# Altium schematic symbol library Schlib1.SchLib: 8 symbols
Pins are listed as number, name and electrical type; pins without a type are passive.

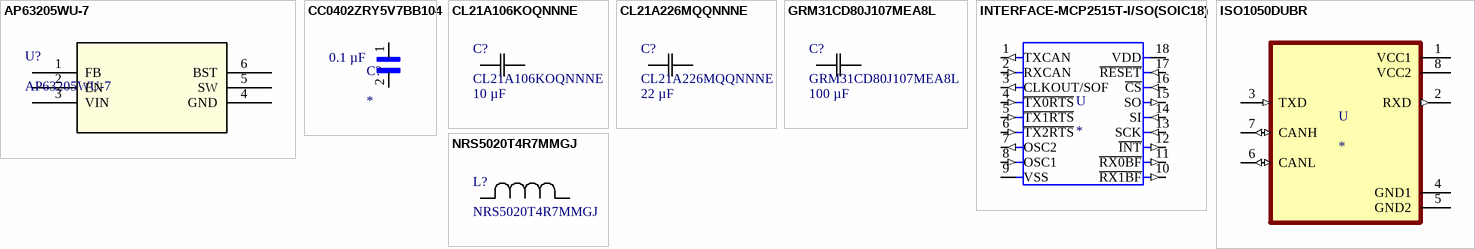
[diagram p0: symbols AP63205WU-7 to NRS5020T4R7MMGJ]

## AP63205WU-7
designator U?
No Description Available; Mfr_Name: Diodes Inc; Copyright: Copyright (C) 2023 Ultra Librarian. All rights reserved.; Manufacturer_Part_Number: AP63205WU-7; RefDes: RefDes; Type: DEV
footprint SOIC_05WU-7_DIO
pins: 1 FB, 2 EN, 3 VIN, 4 GND (power), 5 SW, 6 BST

## CC0402ZRY5V7BB104
designator C?  value 0.1 µF
0.1ÂµF -20%, +80% 16V Ceramic Capacitor Y5V (F) 0402 (1005 Metric); MP: CC0402ZRY5V7BB104; MF: Yageo; Digi-Key_Part_Number: 311-1047-1-ND; Package: 0402 Yageo; SnapEDA_Link: https://www.snapeda.com/parts/CC0402ZRY5V7BB104/Yageo/view-part/1821018/?ref=snap
footprint CAPC1005X55N
pins: 1, 2

## CL21A106KOQNNNE
designator C?  value 10 µF
No Description Available; Mfr_Name: Samsung; Type: DEV; Copyright: Copyright (C) 2023 Ultra Librarian. All rights reserved.; Manufacturer_Part_Number: CL21A106KOQNNNE; RefDes: RefDes
footprint CAP_CL21_SAM
pins: 1, 2

## CL21A226MQQNNNE
designator C?  value 22 µF
No Description Available; Mfr_Name: Samsung; Type: DEV; Copyright: Copyright (C) 2023 Ultra Librarian. All rights reserved.; Manufacturer_Part_Number: CL21A226MQQNNNE; RefDes: RefDes
footprint CAP_CL21_SAM
pins: 1, 2

## GRM31CD80J107MEA8L
designator C?  value 100 µF
No Description Available; Mfr_Name: Murata; Type: DEV; Copyright: Copyright (C) 2023 Ultra Librarian. All rights reserved.; Manufacturer_Part_Number: GRM31CD80J107MEA8L; RefDes: RefDes
footprint CAP_GRM31C_MUR
pins: 1, 2

## INTERFACE-MCP2515T-I/SO(SOIC18)
designator U
CANbus Controller CAN 2.0 SPI Interface 18-SOIC; MP: MCP2515T-I/SO; MF: Microchip; Availability: Unavailable; SnapEDA_Link: https://www.snapeda.com/parts/MCP2515T-I/SO/Microchip/view-part/105731/?ref=snap; Package: SOIC-18 Microchip; Value: *; Price: None
footprint SOIC18-1.27-11.5X7.5MM
pins: 1 TXCAN (out), 2 RXCAN (in), 3 CLKOUT/SOF (out), 4 ~{TX0RTS} (in), 5 ~{TX1RTS} (in), 6 ~{TX2RTS} (in), 7 OSC2 (out), 8 OSC1 (in), 9 VSS (power), 10 ~{RX1BF} (out), 11 ~{RX0BF} (out), 12 ~{INT} (out), 13 SCK (in), 14 SI (in), 15 SO (out), 16 ~{CS} (in), 17 ~{RESET} (in), 18 VDD (power)

## ISO1050DUBR
designator U
Isolated 5-V CAN transceiver 8-SOP -55 to 105; MP: ISO1050DUBR; MF: Texas Instruments; Package: SOP-8 Texas Instruments; DigiKey-Purchase-URL: https://snapeda.com/shop?store=DigiKey&id=334036; Mouser-Purchase-URL: https://snapeda.com/shop?store=Mouser&id=334036; Price: None; Availability: Good; Texas_Instruments-Purchase-URL: https://snapeda.com/shop?store=Texas+Instruments&id=334036; Arrow_Electronics-Purchase-URL: https://snapeda.com/shop?store=Arrow+Electronics&id=334036; Value: *; SnapEDA_Link: https://www.snapeda.com/parts/ISO1050DUBR/Texas%20Instruments/view-part/334036/?ref=snap
footprint SOP254P1040X485-8N
pins: 1 VCC1 (power), 2 RXD (out), 3 TXD (in), 4 GND1 (power), 5 GND2 (power), 6 CANL (io), 7 CANH (io), 8 VCC2 (power)

## NRS5020T4R7MMGJ
designator L?
No Description Available; Mfr_Name: Taiyo Yuden; Type: DEV; Value: 4.7 µH; Copyright: Copyright (C) 2023 Ultra Librarian. All rights reserved.; Manufacturer_Part_Number: NRS5020T4R7MMGJ; RefDes: RefDes
footprint IND_TAIYO_NRS5020_TAY
pins: 1, 2